# Altium schematic symbol library LM48310.SchLib: 1 symbol
Pins are listed as number, name and electrical type; pins without a type are passive.

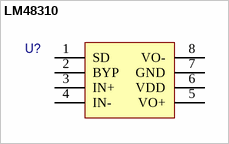
[diagram p0: symbol LM48310]

## LM48310
designator U?
pins: 1 SD, 2 BYP, 3 IN+, 4 IN-, 5 VO+, 6 VDD, 7 GND, 8 VO-
2 alternate drawings of the same symbol